# Altium schematic symbol library MPX1D1264L1R0.SchLib: 1 symbol
Pins are listed as number, name and electrical type; pins without a type are passive.

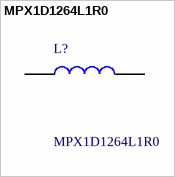
[diagram p0: symbol MPX1D1264L1R0]

## MPX1D1264L1R0
designator L?
Surface Mount Inductor; Manufacturer_Name: Yageo Group; Geometry.Height: 6.4mm; Mouser Part Number: 80-MPX1D1264L1R0; Mouser Price/Stock: https://www.mouser.co.uk/ProductDetail/KEMET/MPX1D1264L1R0?qs=P1JMDcb91o5Wago5y8gjMA%3D%3D; Manufacturer_Part_Number: MPX1D1264L1R0; Datasheet Link: https://www.yageogroup.com/content/datasheet/asset/file/KEM_L9012_MPX
footprint INDPM132125X640N
pins: 1, 2